# Altium footprint library IC-uDFN.PcbLib: 1 footprints
Each footprint in its own frame and in the unit in brackets; x right, y up, seen from the top. Pads: shape width x height; smd on the part's side, far side on the other; paste and mask are expansions set on the pad; w line width, h text height; cw(c..) or ccw(c..) is an arc to the next point about the centre after c.
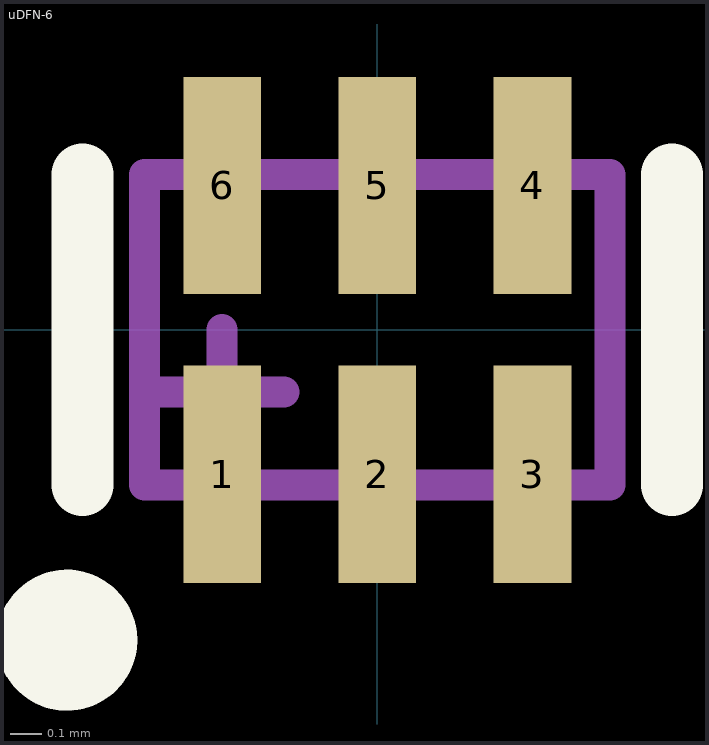
[diagram p0: the footprint, top view; thin cyan lines are the x and y axes]

## uDFN-6 [mm]
pads (6):
  rect 0.25x0.7 smd mask+0.051: 1(-0.5,-0.465) 2(0,-0.465) 3(0.5,-0.465) 4(0.5,0.465) 5(0,0.465) 6(-0.5,0.465)
Top Overlay:
  circle w0.254: c-1,-1 r0.1
  lines w0.2: -0.95,-0.5 -0.95,0.5 ; 0.95,-0.5 0.95,0.5
Mechanical 13:
  lines w0.1: -0.7,-0.2 -0.3,-0.2 ; -0.5,-0.4 -0.5,0 ; -0.75,-0.5 0.75,-0.5 0.75,0.5 -0.75,0.5 -0.75,-0.5